# EAGLE library part SPRING_TB_UP4 (library personal_srgPersonal)
Spring loaded Terminal block 4UCON 0.10 pitch straight (wire goes in top) 2 amps 20-26 AWG Adafruit: P/N 1081 <http://www.adafruit.com/products/1081>
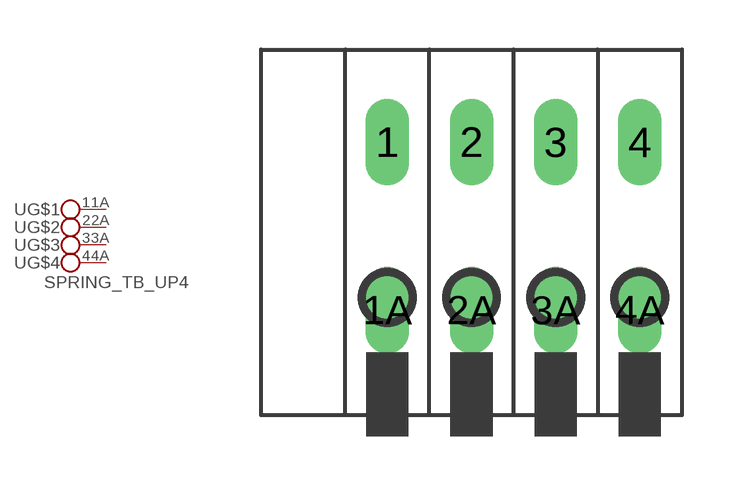
[diagram p5: symbol with the pads of SPRING_TB_UP4; footprint SPRING_TB_UP4]

Designator prefix -; gates G$1=KL2 G$2=KL2 G$3=KL2 G$4=KL2V

## SPRING_TB_UP4  [SPRING_TB_UP4]
1  G$1:1  pas
1A  G$1:2  pas
2  G$2:1  pas
2A  G$2:2  pas
3  G$3:1  pas
3A  G$3:2  pas
4  G$4:1  pas
4A  G$4:2  pas

## Footprint SPRING_TB_UP4 (pad centres in mm)
Spring Loaded Terminal Block 4UCON 0.10 pitch straight (wire goes in top) 2 amps 20-26 AWG Adafruit: P/N 1081 <http://www.adafruit.com/products/1081> Terminal block comes with 3 terminals, but the are modular so you can add or remove terminals
drill 0.8 long: 1 -3.81,2.54; 1A -3.81,-2.54; 2 -1.27,2.54; 2A -1.27,-2.54; 3 1.27,2.54; 3A 1.27,-2.54; 4 3.81,2.54; 4A 3.81,-2.54